# Altium schematic symbol library Con_RF_3.SchLib: 1 symbol
Pins are listed as number, name and electrical type; pins without a type are passive.

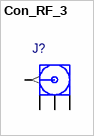
[diagram p0: symbol Con_RF_3]

## Con_RF_3
designator J?  (value not drawn)
pins: 1 Signal (out) "Signal Pin", 2 GND (power), 3 GND (power), 4 GND (power)